# Altium schematic symbol library SCH.SCHLIB: 34 symbols
Pins are listed as number, name and electrical type; pins without a type are passive.

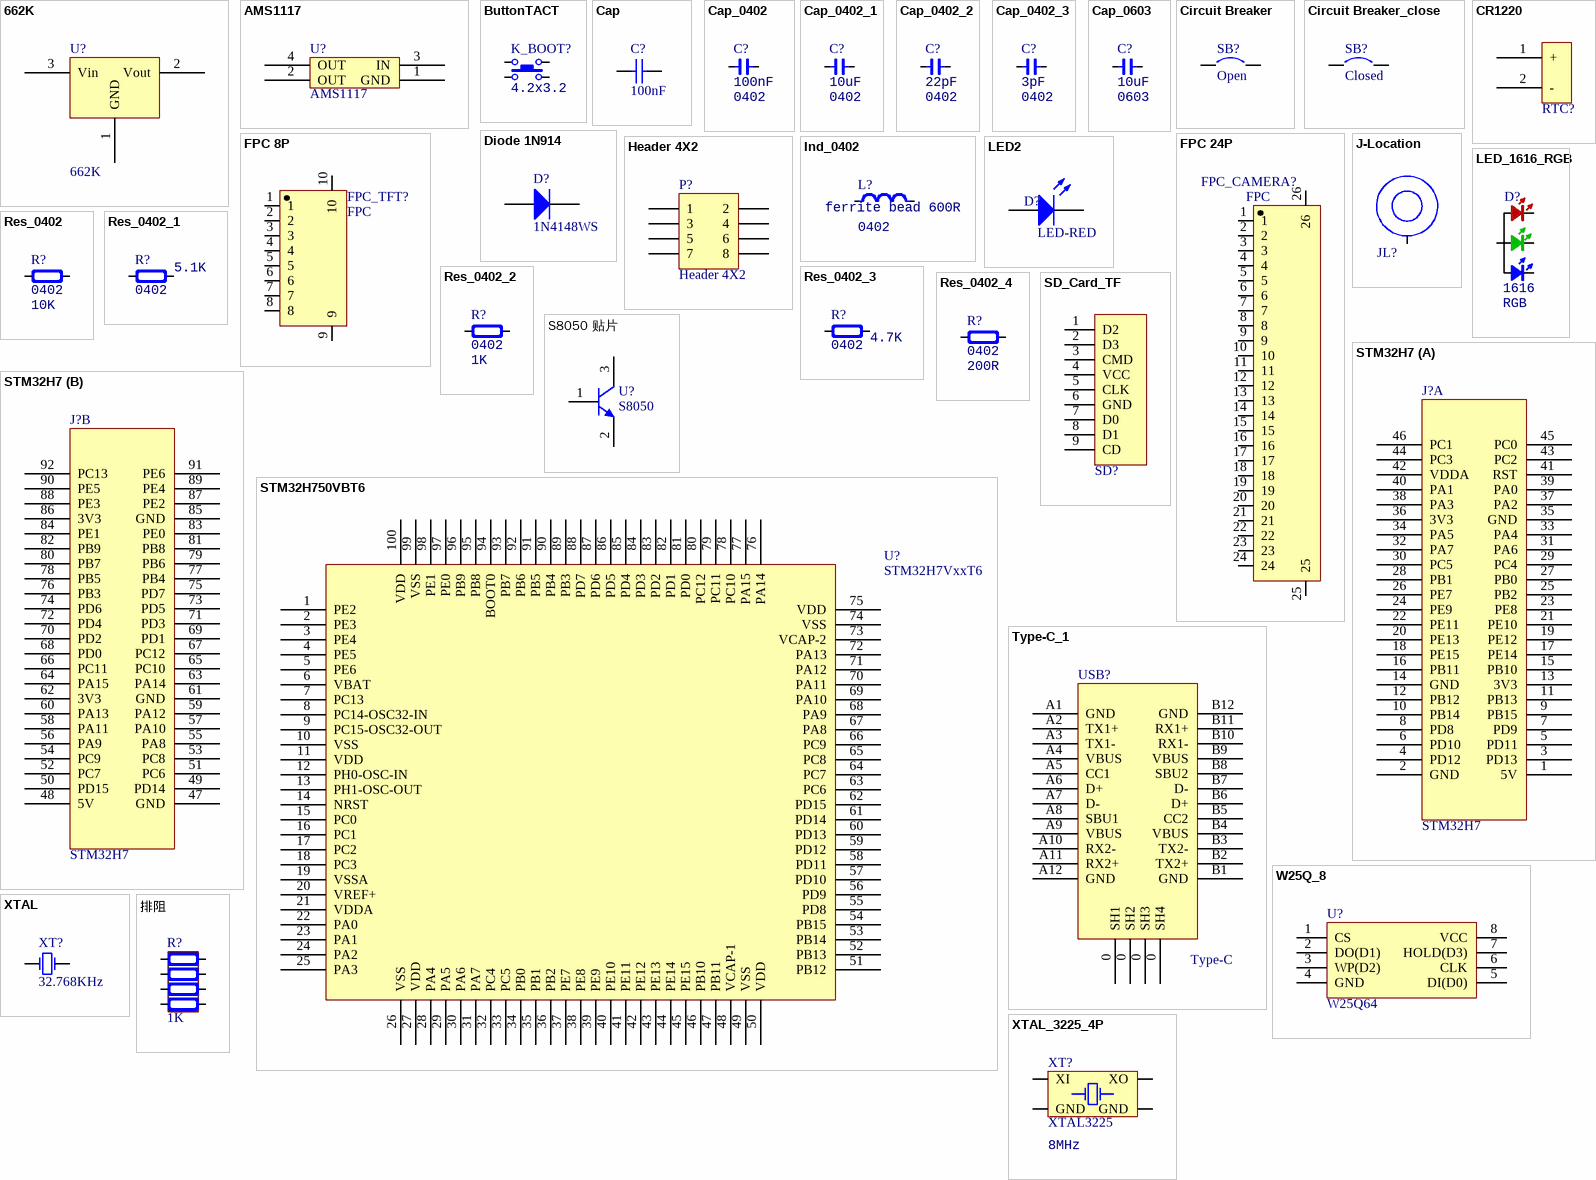
[diagram p0: symbols 662K to 排阻]

## 662K
designator U?
footprint 662K
footprint SOT-23
pins: 1 GND, 2 Vout, 3 Vin

## AMS1117
designator U?
footprint AMS1117
footprint SOT-89
pins: 1 GND, 2 OUT, 3 IN, 4 OUT

## ButtonTACT
designator K_BOOT?  value 4.2x3.2
Button
footprint ButtonTACT_3.5*3.55_90
footprint ButtonTACT_3.4*3.5_90
footprint KEY 4.2*3.2*2.5
pins: 1, 2, 3, 4

## Cap
designator C?, comment 100nF
Capacitor; value: 104; Published: 8-Jun-2000; LatestRevisionDate: 17-Jul-2002; LatestRevisionNote: Re-released for DXP Platform.; PackageReference: RAD-0.3; Publisher: Altium Limited; PackageDescription: Radial Cap, Thru-Hole; 2 Leads; 0.3 in Pin Spacing
simulation model CAP (Capacitor)
signal-integrity model Cap
footprint PCBComponent_1
footprint 0603(1608)-B
footprint 0603R (Chip Resistor, Body 1.6x0.8mm, IPC Medium Density)
footprint 0603C (Chip Capacitor, Body 1.6x0.8mm, Height 1.0mm, IPC Medium Density)
footprint C0603
footprint C0603
footprint C0402
footprint C0402
pins: 1, 2

## Cap_0402
designator C?, comment Type: 0402  (hidden comment: 100nF)
Capacitor; Specification: X7R 50V; Manufacturer: *; Value: 100nF
footprint CAP_0402
footprint C0402
pins: 1, 2

## Cap_0402_1
designator C?, comment Type: 0402  (hidden comment: 10uF)
Capacitor; Specification: X7R 50V; Manufacturer: *; Value: 10uF
footprint CAP_0402
footprint C0402
pins: 1, 2

## Cap_0402_2
designator C?, comment Type: 0402  (hidden comment: 22pF)
Capacitor; Specification: X7R 50V; Manufacturer: *; Value: 22pF
footprint CAP_0402
footprint C0402
pins: 1, 2

## Cap_0402_3
designator C?, comment Type: 0402  (hidden comment: 3pF)
Capacitor; Specification: X7R 50V; Manufacturer: *; Value: 3pF
footprint CAP_0402
footprint C0402
pins: 1, 2

## Cap_0603
designator C?, comment Type: 0603  (hidden comment: 10uF)
Capacitor; Specification: X7R 50V; Manufacturer: *; Value: 10uF
footprint CAP_0603
footprint C0402
footprint C0603
pins: 1, 2

## Circuit Breaker
designator SB?, comment Open
Circuit Breaker; Published: 24-Mar-1999; Revision: July-2002: Re-released for DXP Platform.; Publisher: Altium Limited
footprint SPST-2 (Circuit Breaker; 2 Leads)
footprint JP2_SMD
footprint SB_0603 (Footprint not found)
footprint SB_0402 (Jumper)
pins: 1, 2

## Circuit Breaker_close
designator SB?, comment Closed
Circuit Breaker; Published: 24-Mar-1999; Revision: July-2002: Re-released for DXP Platform.; Publisher: Altium Limited
footprint SPST-2 (Circuit Breaker; 2 Leads)
footprint JP2_SMD
footprint SB_0603 (Footprint not found)
footprint SB_0402 (Jumper)
pins: 1, 2

## CR1220
designator RTC?  (value not drawn)
footprint CR1220-1
footprint FDC ML621
pins: 1 +, 2 -

## Diode 1N914
designator D?, comment 1N4148WS
High Conductance Fast Diode; Published: 8-Jun-2000; LatestRevisionDate: 17-Jul-2002; LatestRevisionNote: Re-released for DXP Platform.; DatasheetVersion: 1997; PackageReference: DO-35; Publisher: Altium Limited; PackageDescription: Diode, Axial; Body 3.8 x 1.9 mm (LxDia. max), Lead Dia. 0.53 mm (max); Code_JEDEC: DO-204-AH; ComponentLink1Description: Manufacturer Link; ComponentLink1URL: http://www.fairchildsemi.com/; ComponentLink2Description: Datasheet; ComponentLink2URL: http://www.fairchildsemi.com/ds/1N%2F1N4448.pdf
simulation model 1N914 (DIODE)
signal-integrity model 1N914
footprint SOD-323 (Diode)
footprint SOD323 (0805)
pins: 1 A, 2 K

## FPC 8P
designator FPC_TFT?, comment FPC
footprint FPC 0.5MM 8P
pins: 1, 2, 3, 4, 5, 6, 7, 8, 9, 10

## FPC 24P
designator FPC_CAMERA?, comment FPC
footprint FH12-50(24)SA-1SH (Connector; FH12 Series; 24 Position; 1.0mm Spaced Bottom Eccentric Contact)
footprint FH12-24S-0.5SH (Connector; FH12 Series; 24 Position; 0.5mm Spaced Bottom Contact)
pins: 1, 2, 3, 4, 5, 6, 7, 8, 9, 10, 11, 12, 13, 14, 15, 16, 17, 18, 19, 20, 21, 22, 23, 24, 25, 26

## Header 4X2
designator P?
Header, 4-Pin, Dual row; LatestRevisionDate: 17-Jul-2002; LatestRevisionNote: Re-released for DXP Platform.; Publisher: Altium Limited
footprint HDR2X4 (Connector; Header; 4x2 Position)
signal-integrity model Connector
footprint HDR2.54-WI-2x4P (双排弯脚排针，4x2脚)
pins: 1, 2, 3, 4, 5, 6, 7, 8

## Ind_0402
designator L?, comment Type: 0402  (hidden comment: ferrite bead 600R)
Inductor; Specification: ±5% 100mA; Manufacturer: *; Value: ferrite bead 600R
footprint IND_0402
footprint L0402
pins: 1, 2

## J-Location
designator JL?  (value not drawn)
定位孔
footprint J-Location
footprint 铜柱3
pins: 0 Loc

## LED2
designator D?, comment LED-RED
Typical RED, GREEN, YELLOW, AMBER GaAs LED; Published: 8-Jun-2000; LatestRevisionDate: 17-Jul-2002; LatestRevisionNote: Re-released for DXP Platform.; PackageVersion: Feb-2002; PackageReference: 3.2X1.6X1.1; Publisher: Altium Limited; PackageDescription: SM LED; 2 Flat Leads
footprint 3.2X1.6X1.1 (SMT LED; 2 Flat Leads)
simulation model LED2 (Diode)
footprint 6-0805_M (Chip Resistor, Body 2.0x1.2mm, IPC Low Density)
footprint 0603(1608)
footprint 0603(1608) - LED (Chip Capacitor, Body 1.6x0.8mm, IPC High Density)
footprint RGB 0603
footprint 0603D_R (LED, SMT, Body 1.6 x 0.8 mm, 0.25mm Thickness)
pins: 1 A, 2 K

## LED_1616_RGB
designator D?, comment Type: 1616  (hidden comment: RGB)
LED; Value: RGB
footprint LED_1616_RGB
footprint LED_1616_RGB
pins: 1 A, 2 R, 3 G, 4 B

## Res_0402
designator R?, comment Type: 0402  (hidden comment: 10K)
Resistor; Specification: ±5%; Manufacturer: *; Value: 10K
footprint RES_0402
footprint R0603 (1/10W)
footprint R0402 (1/16W)
footprint R0402 (1/16W)
pins: 1, 2

## Res_0402_1
designator R?, comment Type: 0402  (hidden comment: 5.1K)
Resistor; Specification: ±5%; Manufacturer: *; Value: 5.1K
footprint RES_0402
footprint R0603 (1/10W)
footprint R0402 (1/16W)
pins: 1, 2

## Res_0402_2
designator R?, comment Type: 0402  (hidden comment: 1K)
Resistor; Specification: ±5%; Manufacturer: *; Value: 1K
footprint RES_0402
footprint R0603 (1/10W)
footprint R0402 (1/16W)
footprint R0402 (1/16W)
pins: 1, 2

## Res_0402_3
designator R?, comment Type: 0402  (hidden comment: 4.7K)
Resistor; Specification: ±5%; Manufacturer: *; Value: 4.7K
footprint RES_0402
footprint R0603 (1/10W)
footprint R0402 (1/16W)
footprint R0402 (1/16W)
pins: 1, 2

## Res_0402_4
designator R?, comment Type: 0402  (hidden comment: 200R)
Resistor; Specification: ±5%; Manufacturer: *; Value: 200R
footprint RES_0402
footprint R0603 (1/10W)
footprint R0402 (1/16W)
pins: 1, 2

## S8050 贴片
designator U?, comment S8050
footprint SOT-23(SOT-23-3)
footprint SOT-23
pins: 1 B, 2 E, 3 C

## SD_Card_TF
designator SD?  (value not drawn)
SD
footprint SD_Card_TF
footprint TF_CARD
footprint MINI-TF CARD2
footprint SD_Card_TF
pins: 1 D2, 2 D3, 3 CMD, 4 VCC, 5 CLK, 6 GND, 7 D0, 8 D1, 9 CD

## STM32H7
designator J?
part A pins: 1 5V, 2 GND, 3 PD13, 4 PD12, 5 PD11, 6 PD10, 7 PD9, 8 PD8, 9 PB15, 10 PB14, 11 PB13, 12 PB12, 13 3V3, 14 GND, 15 PB10, 16 PB11, 17 PE14, 18 PE15, 19 PE12, 20 PE13, 21 PE10, 22 PE11, 23 PE8, 24 PE9, 25 PB2, 26 PE7, 27 PB0, 28 PB1, 29 PC4, 30 PC5, 31 PA6, 32 PA7, 33 PA4, 34 PA5, 35 GND, 36 3V3, 37 PA2, 38 PA3, 39 PA0, 40 PA1, 41 RST, 42 VDDA, 43 PC2, 44 PC3, 45 PC0, 46 PC1
part B pins: 47 GND, 48 5V, 49 PD14, 50 PD15, 51 PC6, 52 PC7, 53 PC8, 54 PC9, 55 PA8, 56 PA9, 57 PA10, 58 PA11, 59 PA12, 60 PA13, 61 GND, 62 3V3, 63 PA14, 64 PA15, 65 PC10, 66 PC11, 67 PC12, 68 PD0, 69 PD1, 70 PD2, 71 PD3, 72 PD4, 73 PD5, 74 PD6, 75 PD7, 76 PB3, 77 PB4, 78 PB5, 79 PB6, 80 PB7, 81 PB8, 82 PB9, 83 PE0, 84 PE1, 85 GND, 86 3V3, 87 PE2, 88 PE3, 89 PE4, 90 PE5, 91 PE6, 92 PC13

## STM32H750VBT6
designator U?, comment STM32H7VxxT6
footprint STM32H750VBT6
pins: 1 PE2, 2 PE3, 3 PE4, 4 PE5, 5 PE6, 6 VBAT, 7 PC13, 8 PC14-OSC32-IN, 9 PC15-OSC32-OUT, 10 VSS, 11 VDD, 12 PH0-OSC-IN, 13 PH1-OSC-OUT, 14 NRST, 15 PC0, 16 PC1, 17 PC2, 18 PC3, 19 VSSA, 20 VREF+, 21 VDDA, 22 PA0, 23 PA1, 24 PA2, 25 PA3, 26 VSS, 27 VDD, 28 PA4, 29 PA5, 30 PA6, 31 PA7, 32 PC4, 33 PC5, 34 PB0, 35 PB1, 36 PB2, 37 PE7, 38 PE8, 39 PE9, 40 PE10, 41 PE11, 42 PE12, 43 PE13, 44 PE14, 45 PE15, 46 PB10, 47 PB11, 48 VCAP-1, 49 VSS, 50 VDD, 51 PB12, 52 PB13, 53 PB14, 54 PB15, 55 PD8, 56 PD9, 57 PD10, 58 PD11, 59 PD12, 60 PD13, 61 PD14, 62 PD15, 63 PC6, 64 PC7, 65 PC8, 66 PC9, 67 PA8, 68 PA9, 69 PA10, 70 PA11, 71 PA12, 72 PA13, 73 VCAP-2, 74 VSS, 75 VDD, 76 PA14, 77 PA15, 78 PC10, 79 PC11, 80 PC12, 81 PD0, 82 PD1, 83 PD2, 84 PD3, 85 PD4, 86 PD5, 87 PD6, 88 PD7, 89 PB3, 90 PB4, 91 PB5, 92 PB6, 93 PB7, 94 BOOT0, 95 PB8, 96 PB9, 97 PE0, 98 PE1, 99 VSS, 100 VDD

## Type-C_1
designator USB?, comment Type-C
footprint Type-C (16pin)
footprint USB type-c
pins: 0 SH4, 0 SH1, 0 SH2, 0 SH3, A1 GND, A2 TX1+, A3 TX1-, A4 VBUS, A5 CC1, A6 D+, A7 D-, A8 SBU1, A9 VBUS, A10 RX2-, A11 RX2+, A12 GND, B1 GND, B2 TX2+, B3 TX2-, B4 VBUS, B5 CC2, B6 D+, B7 D-, B8 SBU2, B9 VBUS, B10 RX1-, B11 RX1+, B12 GND

## W25Q_8
designator U?, comment W25Q64
FLASH
footprint SOIC_E200_8
footprint SON_P1.27H_8 (SON, 8-Leads, Body 5.00x6.00mm, Pitch 1.27mm, Thermal Pad 3.40x4.30mm, IPC High Density)
pins: 1 CS, 2 DO(D1), 3 WP(D2), 4 GND, 5 DI(D0), 6 CLK, 7 HOLD(D3), 8 VCC

## XTAL
designator XT?, comment value 32.768KHz  (hidden comment: 32.768K_XTAL_3215_2P)
Crystal Oscillator
footprint PCBComponent_1
footprint LC-SMD-5032_4P
footprint XTAL_2SM_3R2x2R5 (8M Hz 5x3.2mm)
footprint XTAL_2SM_3R2X1R5 (CRYSTAL 32.768KHZ 6PF SMD 2 pads)
pins: 1 OSC1, 2 OSC2

## XTAL_3225_4P
designator XT?, comment XTAL3225  value 8MHz
Crystal Oscillator; Specification: ??ppm; Type: XTAL3225_4P
footprint XT_3225_4
pins: 1 XI, 2 GND, 3 XO, 4 GND

## 排阻
designator R?, comment 1K
排阻
footprint 排阻
footprint 排阻 0402
pins: 1, 2, 3, 4, 5, 6, 7, 8